# Altium footprint library AZ9431CH24DE.PcbLib: 1 footprints
Each footprint in its own frame and in the unit in brackets; x right, y up, seen from the top. Pads: shape width x height; smd on the part's side, far side on the other; paste and mask are expansions set on the pad; w line width, h text height; cw(c..) or ccw(c..) is an arc to the next point about the centre after c.
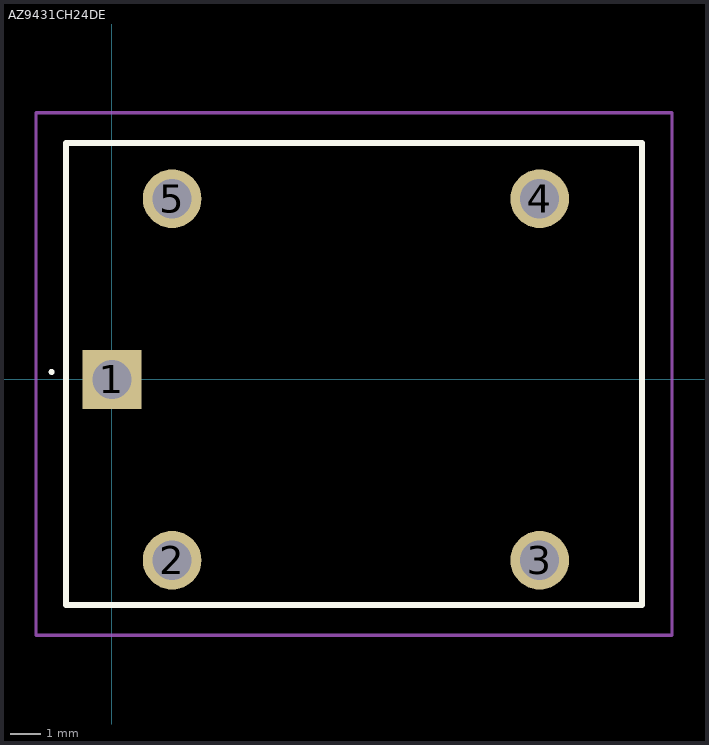
[diagram p0: the footprint, top view; thin cyan lines are the x and y axes]

## AZ9431CH24DE [mm]
pads (5):
  rect 1.95x1.95 hole 1.3: 1(0,0)
  round 1.95 hole 1.3: 2(2,-6) 3(14.2,-6) 4(14.2,6) 5(2,6)
Top Overlay:
  lines w0.1: -2,0.2 -2,0.2 ; -2,0.2 ccw(c-2,0.25) -2,0.3 ; -2,0.2 cw(c-2,0.25) -2,0.3 ; -2,0.3 -2,0.3
  lines w0.2: -1.525,-7.49 17.6,-7.49 17.6,7.855 -1.525,7.855 -1.525,-7.49
Mechanical 15:
  lines w0.1: -1.525,-7.49 17.6,-7.49 17.6,7.855 -1.525,7.855 -1.525,-7.49
Mechanical 20:
  lines w0.1: -2.525,-8.49 18.6,-8.49 18.6,8.855 -2.525,8.855 -2.525,-8.49